# Altium footprint library Miscellaneous Connector PCB.PcbLib: 186 footprints (part 1 of 12)
Each footprint in its own frame and in the unit in brackets; x right, y up, seen from the top. Pads: shape width x height; smd on the part's side, far side on the other; paste and mask are expansions set on the pad; w line width, h text height; cw(c..) or ccw(c..) is an arc to the next point about the centre after c.
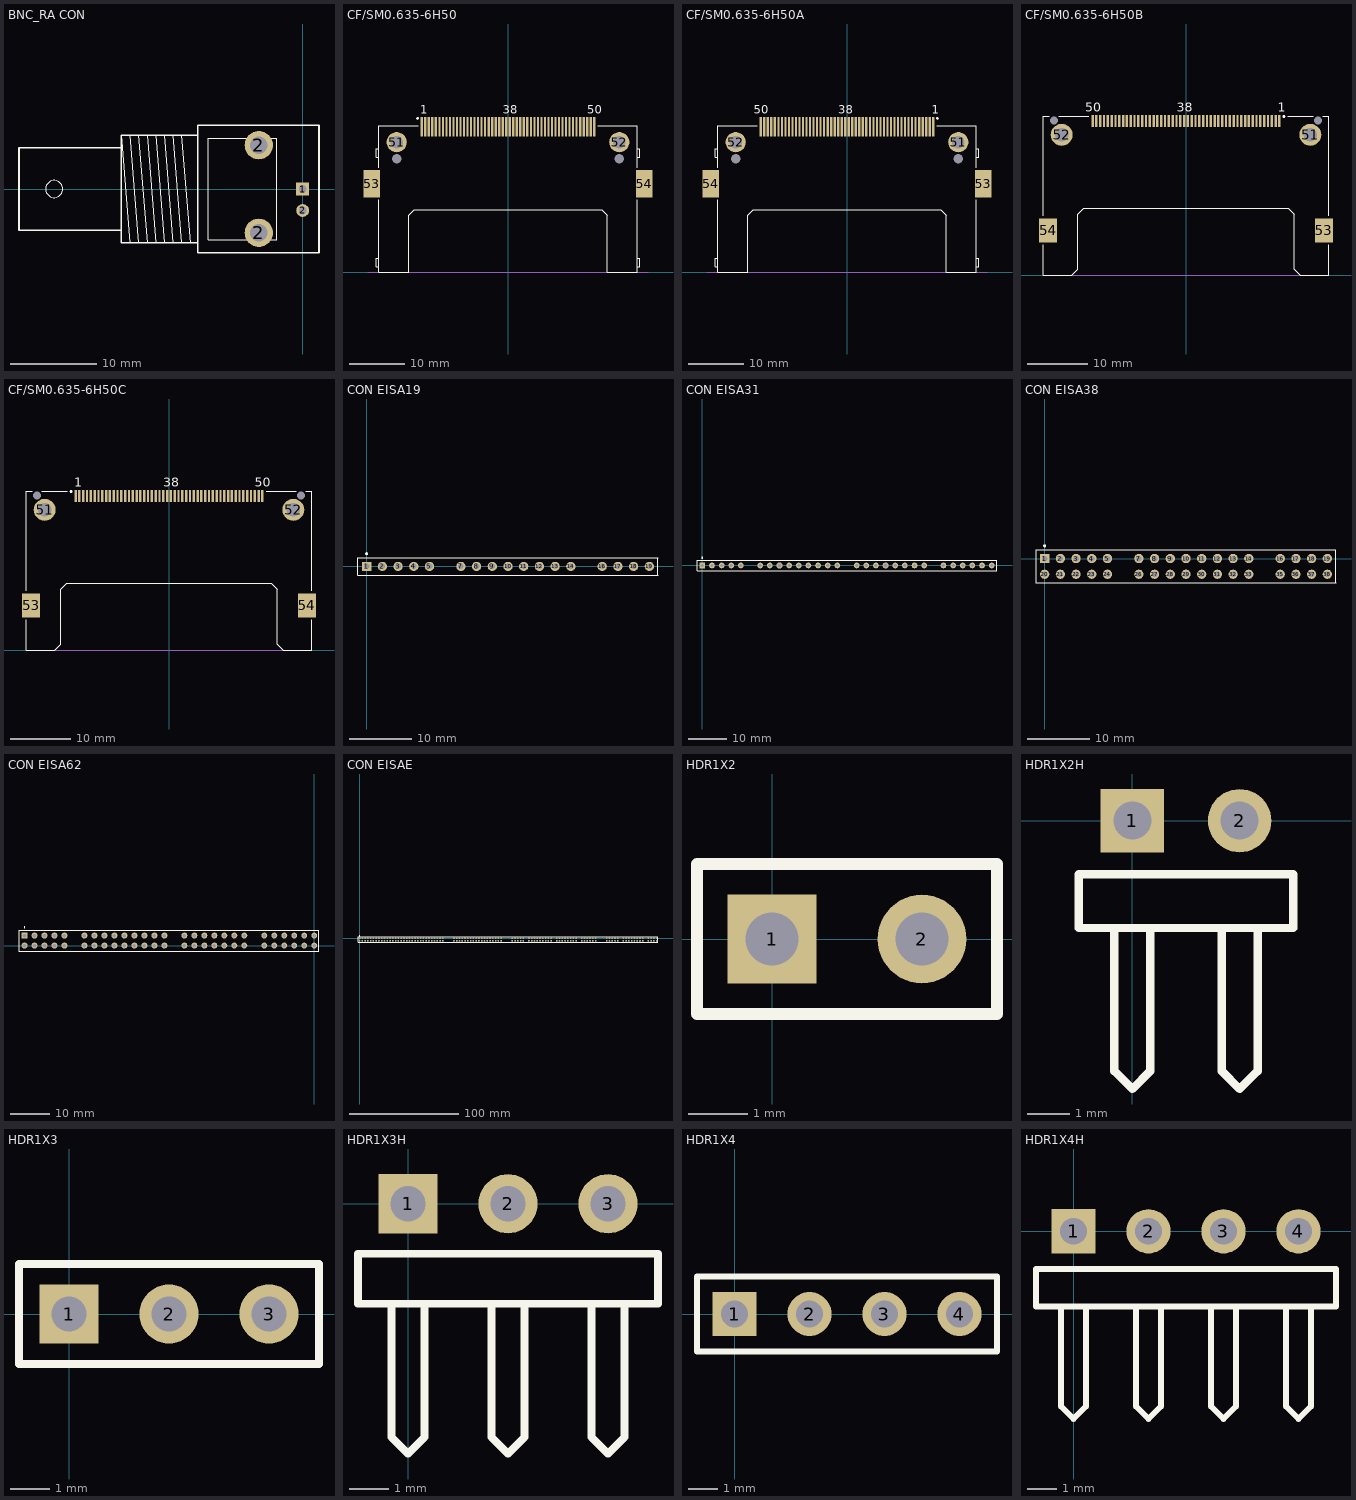
[diagram p0: the footprints below, top view; thin cyan lines are the x and y axes]

## BNC_RA CON [mm]
pads (4):
  rect 1.5x1.5 hole 0.9: 1(0,0)
  round 3.3 hole 2: 2(-5.1,-5.1) 2(-5.1,5.1)
  round 1.5 hole 0.9: 2(0,-2.5)
Top Overlay:
  circle w0.025: c-28.9,0 r1
  lines w0.025: -20.1,-6.25 -21.1,6.25 ; -20.1,6.25 -19.1,-6.25 ; -19.1,6.25 -18.1,-6.25 ; -18.1,6.25 -17.1,-6.25 ; -17.1,6.25 -16.1,-6.25 ; -16.1,6.25 -15.1,-6.25 ; -15.1,6.25 -14.1,-6.25 ; -14.1,6.25 -13.1,-6.25 ; -21.1,-4.8 -33,-4.8 -33,4.8 -21.1,4.8 ; -21.1,-4.8 -21.1,4.8 ; -21.1,-4.8 -21.1,-6.25 -12.2,-6.25 ; -21.1,4.8 -21.1,6.25 ; -21.1,6.25 -12.2,6.25 ; -12.2,-6.25 -12.2,6.25 ; -12.2,-6.25 -12.2,-7.4 1.9,-7.4 1.9,7.4 -12.2,7.4 -12.2,6.25 ; -11,-5.9 -3,-5.9 -3,5.9 -11,5.9 -11,-5.9
  lines w0.2: -21.1,-4.8 -21.1,4.8 ; -21.1,-4.8 -33,-4.8 -33,4.8 -21.1,4.8 ; -21.1,-4.8 -21.1,-6.25 -12.2,-6.25 ; -21.1,4.8 -21.1,6.25 -12.2,6.25 ; -12.2,-6.25 -12.2,6.25 ; -12.2,-6.25 -12.2,-7.4 1.9,-7.4 1.9,7.4 -12.2,7.4 -12.2,6.25

## CF/SM0.635-6H50 [mm] "Connector; CompactFlash Card Header, SM; Normal Polarization; 50 Position; Right Angle; Pitch 0.635 mm"
height 6.72
pads (56):
  rect 0.4x3.5 smd: 1(-15.557,26.3) 2(-14.287,26.3) 3(-13.017,26.3) 4(-11.747,26.3) 5(-10.477,26.3) 6(-9.207,26.3) 7(-7.937,26.3) 8(-6.667,26.3) 9(-5.397,26.3) 10(-4.127,26.3) 11(-2.857,26.3) 12(-1.587,26.3) 13(-0.317,26.3) 14(0.953,26.3) 15(2.223,26.3) 16(3.493,26.3) 17(4.763,26.3) 18(6.033,26.3) 19(7.303,26.3) 20(8.573,26.3) 21(9.843,26.3) 22(11.113,26.3) 23(12.383,26.3) 24(13.653,26.3) 25(14.923,26.3) 26(-14.922,26.3) 27(-13.652,26.3) 28(-12.383,26.3) 29(-11.112,26.3) 30(-9.842,26.3) 31(-8.572,26.3) 32(-7.302,26.3) 33(-6.032,26.3) 34(-4.762,26.3) 35(-3.492,26.3) 36(-2.222,26.3) 37(-0.952,26.3) 38(0.318,26.3) 39(1.588,26.3) 40(2.858,26.3) 41(4.128,26.3) 42(5.398,26.3) 43(6.668,26.3) 44(7.938,26.3) 45(9.208,26.3) 46(10.478,26.3) 47(11.748,26.3) 48(13.018,26.3) 49(14.288,26.3) 50(15.558,26.3)
  round 3.65 hole 2.2: 51(-20.08,23.5) 52(20.08,23.5)
  rect 3x5 smd: 53(-24.565,16) 54(24.565,16)
  round 1.4 hole 1.7 unplated: 55(-20.08,20.5) 56(20.08,20.5)
Top Overlay:
  circle w0.25: c-16.3,27.8 r0.125
  lines w0.2: -23.3,1 -23.8,1 -23.8,2.54 -23.3,2.54 ; -23.3,13.1 -23.3,0 -17.95,0 -17.95,10.3 -16.95,11.3 16.95,11.3 17.95,10.3 17.95,0 23.3,0 23.3,13.1 ; -23.3,18.9 -23.3,26.5 -16.16,26.5 ; -23.3,20.76 -23.8,20.76 -23.8,22.3 -23.3,22.3 ; 16.16,26.5 23.3,26.5 23.3,18.9 ; 23.3,1 23.8,1 23.8,2.54 23.3,2.54 ; 23.3,20.76 23.8,20.76 23.8,22.3 23.3,22.3
  text "50" at 14.308,28.6 h1.5
  text "1" at -15.807,28.6 h1.5
  text "38" at -0.907,28.6 h1.5
Mechanical 1:
  lines w0.1: -25.3,0 25.3,0
  text "PCB Edge" at -17.3,0.45 h0.6

## CF/SM0.635-6H50A [mm] "Connector; CompactFlash Card Header, SM; lnverse Polarization; 50 Position; Right Angle; Pitch 0.635 mm"
height 6.72
pads (56):
  rect 0.4x3.5 smd: 1(15.558,26.3) 2(14.288,26.3) 3(13.018,26.3) 4(11.748,26.3) 5(10.478,26.3) 6(9.208,26.3) 7(7.938,26.3) 8(6.668,26.3) 9(5.398,26.3) 10(4.128,26.3) 11(2.858,26.3) 12(1.588,26.3) 13(0.318,26.3) 14(-0.952,26.3) 15(-2.222,26.3) 16(-3.492,26.3) 17(-4.762,26.3) 18(-6.032,26.3) 19(-7.302,26.3) 20(-8.572,26.3) 21(-9.842,26.3) 22(-11.112,26.3) 23(-12.382,26.3) 24(-13.652,26.3) 25(-14.922,26.3) 26(14.923,26.3) 27(13.653,26.3) 28(12.383,26.3) 29(11.113,26.3) 30(9.843,26.3) 31(8.573,26.3) 32(7.303,26.3) 33(6.033,26.3) 34(4.763,26.3) 35(3.493,26.3) 36(2.223,26.3) 37(0.953,26.3) 38(-0.317,26.3) 39(-1.587,26.3) 40(-2.857,26.3) 41(-4.127,26.3) 42(-5.397,26.3) 43(-6.667,26.3) 44(-7.937,26.3) 45(-9.207,26.3) 46(-10.477,26.3) 47(-11.747,26.3) 48(-13.017,26.3) 49(-14.287,26.3) 50(-15.557,26.3)
  round 3.65 hole 2.2: 51(20.08,23.5) 52(-20.08,23.5)
  rect 3x5 smd: 53(24.565,16) 54(-24.565,16)
  round 1.4 hole 1.7 unplated: 55(20.08,20.5) 56(-20.08,20.5)
Top Overlay:
  circle w0.25: c16.3,27.8 r0.125
  lines w0.2: -23.3,1 -23.8,1 -23.8,2.54 -23.3,2.54 ; -23.3,13.1 -23.3,0 -17.95,0 -17.95,10.3 -16.95,11.3 16.95,11.3 17.95,10.3 17.95,0 23.3,0 23.3,13.1 ; -23.3,18.9 -23.3,26.5 -16.16,26.5 ; -23.3,20.76 -23.8,20.76 -23.8,22.3 -23.3,22.3 ; 16.16,26.5 23.3,26.5 23.3,18.9 ; 23.3,1 23.8,1 23.8,2.54 23.3,2.54 ; 23.3,20.76 23.8,20.76 23.8,22.3 23.3,22.3
  text "38" at -1.567,28.6 h1.5
  text "50" at -16.807,28.6 h1.5
  text "1" at 15.308,28.6 h1.5
Mechanical 1:
  lines w0.1: -25.3,0 25.3,0
  text "PCB Edge" at -17.3,0.45 h0.6

## CF/SM0.635-6H50B [mm] "Connector; CompactFlash Card Header, SM; Reverse Mount; 50 Position; Right Angle; Pitch 0.635 mm"
height 6.8
pads (56):
  rect 0.4x2 smd: 1(15.557,25.7) 2(14.287,25.7) 3(13.018,25.7) 4(11.747,25.7) 5(10.477,25.7) 6(9.207,25.7) 7(7.938,25.7) 8(6.667,25.7) 9(5.397,25.7) 10(4.127,25.7) 11(2.857,25.7) 12(1.587,25.7) 13(0.318,25.7) 14(-0.953,25.7) 15(-2.222,25.7) 16(-3.492,25.7) 17(-4.763,25.7) 18(-6.032,25.7) 19(-7.302,25.7) 20(-8.572,25.7) 21(-9.842,25.7) 22(-11.112,25.7) 23(-12.383,25.7) 24(-13.652,25.7) 25(-14.922,25.7) 26(14.922,25.7) 27(13.652,25.7) 28(12.383,25.7) 29(11.112,25.7) 30(9.842,25.7) 31(8.572,25.7) 32(7.302,25.7) 33(6.032,25.7) 34(4.763,25.7) 35(3.492,25.7) 36(2.222,25.7) 37(0.953,25.7) 38(-0.318,25.7) 39(-1.587,25.7) 40(-2.857,25.7) 41(-4.127,25.7) 42(-5.397,25.7) 43(-6.667,25.7) 44(-7.938,25.7) 45(-9.207,25.7) 46(-10.477,25.7) 47(-11.747,25.7) 48(-13.018,25.7) 49(-14.287,25.7) 50(-15.557,25.7)
  round 3.65 hole 2.3: 51(20.7,23.4) 52(-20.7,23.4)
  rect 3x4 smd: 53(22.98,7.5) 54(-22.98,7.5)
  round 1 hole 1.3 unplated: 55(22,25.8) 56(-22,25.8)
Top Overlay:
  circle w0.25: c16.3,26.45 r0.125
  lines w0.2: -23.8,5.1 -23.8,0 -19,0 -18,1 -18,10.2 -17,11.2 17,11.2 18,10.2 18,1 19,0 23.8,0 23.8,5.1 ; -23.8,9.9 -23.8,26.5 -22.8,26.5 ; -21.2,26.5 -16.16,26.5 ; 16.957,26.5 21.2,26.5 ; 22.8,26.5 23.8,26.5 23.8,9.9
  text "38" at -1.568,27.25 h1.5
  text "1" at 15.308,27.25 h1.5
  text "50" at -16.808,27.25 h1.5
Mechanical 1:
  lines w0.1: -23.8,0 23.8,0
  text "PCB Edge" at -17.3,0.45 h0.6

## CF/SM0.635-6H50C [mm] "Connector; CompactFlash Card Header, SM; Standard Mount; 50 Position; Right Angle; Pitch 0.635 mm"
height 6.8
pads (56):
  rect 0.4x2 smd: 1(-15.557,25.7) 2(-14.287,25.7) 3(-13.018,25.7) 4(-11.747,25.7) 5(-10.477,25.7) 6(-9.207,25.7) 7(-7.938,25.7) 8(-6.667,25.7) 9(-5.397,25.7) 10(-4.127,25.7) 11(-2.857,25.7) 12(-1.587,25.7) 13(-0.318,25.7) 14(0.953,25.7) 15(2.222,25.7) 16(3.492,25.7) 17(4.763,25.7) 18(6.032,25.7) 19(7.302,25.7) 20(8.572,25.7) 21(9.842,25.7) 22(11.112,25.7) 23(12.383,25.7) 24(13.652,25.7) 25(14.922,25.7) 26(-14.922,25.7) 27(-13.652,25.7) 28(-12.383,25.7) 29(-11.112,25.7) 30(-9.842,25.7) 31(-8.572,25.7) 32(-7.302,25.7) 33(-6.032,25.7) 34(-4.763,25.7) 35(-3.492,25.7) 36(-2.222,25.7) 37(-0.953,25.7) 38(0.318,25.7) 39(1.587,25.7) 40(2.857,25.7) 41(4.127,25.7) 42(5.397,25.7) 43(6.667,25.7) 44(7.938,25.7) 45(9.207,25.7) 46(10.477,25.7) 47(11.747,25.7) 48(13.018,25.7) 49(14.287,25.7) 50(15.557,25.7)
  round 3.65 hole 2.3: 51(-20.7,23.4) 52(20.7,23.4)
  rect 3x4 smd: 53(-22.98,7.5) 54(22.98,7.5)
  round 1 hole 1.3 unplated: 55(-22,25.8) 56(22,25.8)
Top Overlay:
  circle w0.25: c-16.3,26.45 r0.125
  lines w0.2: -23.8,5.1 -23.8,0 -19,0 -18,1 -18,10.2 -17,11.2 17,11.2 18,10.2 18,1 19,0 23.8,0 23.8,5.1 ; -23.8,9.9 -23.8,26.5 -22.8,26.5 ; -21.2,26.5 -16.957,26.5 ; 16.16,26.5 21.2,26.5 ; 22.8,26.5 23.8,26.5 23.8,9.9
  text "38" at -0.933,27.25 h1.5
  text "1" at -15.807,27.25 h1.5
  text "50" at 14.307,27.25 h1.5
Mechanical 1:
  lines w0.1: -23.8,0 23.8,0
  text "PCB Edge" at -17.3,0.45 h0.6

## CON EISA19 [mm]
pads (17):
  rect 1.5x1.5 hole 0.9: 1(0,0)
  round 1.5 hole 0.9: 2(2.54,0) 3(5.08,0) 4(7.62,0) 5(10.16,0) 7(15.24,0) 8(17.78,0) 9(20.32,0) 10(22.86,0) 11(25.4,0) 12(27.94,0) 13(30.48,0) 14(33.02,0) 16(38.1,0) 17(40.64,0) 18(43.18,0) 19(45.72,0)
Top Overlay:
  circle w0.25: c0,2.05 r0.125
  lines w0.2: -1.4,-1.4 47.12,-1.4 47.12,1.4 -1.4,1.4 -1.4,-1.4

## CON EISA31 [mm]
pads (28):
  rect 1.5x1.5 hole 0.9: 1(0,0)
  round 1.5 hole 0.9: 2(2.54,0) 3(5.08,0) 4(7.62,0) 5(10.16,0) 7(15.24,0) 8(17.78,0) 10(22.86,0) 11(25.4,0) 12(27.94,0) 13(30.48,0) 14(33.02,0) 15(35.56,0) 17(40.64,0) 18(43.18,0) 19(45.72,0) 21(50.8,0) 22(53.34,0) 23(55.88,0) 24(58.42,0) 26(63.5,0) 27(66.04,0) 28(68.58,0) 29(71.12,0) 30(73.66,0) 31(76.2,0)
  round 1.6 hole 0.99: 9(20.32,0) 20(48.26,0)
Top Overlay:
  circle w0.25: c0,2.05 r0.125
  lines w0.2: -1.4,-1.4 -1.4,1.4 77.6,1.4 77.6,-1.4 -1.4,-1.4

## CON EISA38 [mm]
pads (34):
  rect 1.5x1.5 hole 0.9: 1(0,0)
  round 1.5 hole 0.9: 2(2.54,0) 3(5.08,0) 4(7.62,0) 5(10.16,0) 7(15.24,0) 8(17.78,0) 9(20.32,0) 10(22.86,0) 11(25.4,0) 12(27.94,0) 13(30.48,0) 14(33.02,0) 16(38.1,0) 17(40.64,0) 18(43.18,0) 19(45.72,0) 20(0,-2.54) 21(2.54,-2.54) 22(5.08,-2.54) 23(7.62,-2.54) 24(10.16,-2.54) 26(15.24,-2.54) 27(17.78,-2.54) 28(20.32,-2.54) 29(22.86,-2.54) 30(25.4,-2.54) 31(27.94,-2.54) 32(30.48,-2.54) 33(33.02,-2.54) 35(38.1,-2.54) 36(40.64,-2.54) 37(43.18,-2.54) 38(45.72,-2.54)
Top Overlay:
  circle w0.25: c0,2.05 r0.125
  lines w0.2: -1.4,-3.94 47.12,-3.94 47.12,1.4 -1.4,1.4 -1.4,-3.94

## CON EISA62 [mm]
pads (54):
  rect 1.5x1.5 hole 0.9: E1(-73.66,2.54)
  round 1.5 hole 0.9: E2(-71.12,2.54) E3(-68.58,2.54) E4(-66.04,2.54) E5(-63.5,2.54) E7(-58.42,2.54) E8(-55.88,2.54) E9(-53.34,2.54) E10(-50.8,2.54) E11(-48.26,2.54) E12(-45.72,2.54) E13(-43.18,2.54) E14(-40.64,2.54) E15(-38.1,2.54) E18(-33.02,2.54) E19(-30.48,2.54) E20(-27.94,2.54) E21(-25.4,2.54) E22(-22.86,2.54) E23(-20.32,2.54) E24(-17.78,2.54) E26(-12.7,2.54) E27(-10.16,2.54) E28(-7.62,2.54) E29(-5.08,2.54) E30(-2.54,2.54) E31(0,2.54) F1(-73.66,0) F2(-71.12,0) F3(-68.58,0) F4(-66.04,0) F5(-63.5,0) F7(-58.42,0) F8(-55.88,0) F9(-53.34,0) F10(-50.8,0) F11(-48.26,0) F12(-45.72,0) F13(-43.18,0) F14(-40.64,0) F15(-38.1,0) F18(-33.02,0) F19(-30.48,0) F20(-27.94,0) F21(-25.4,0) F22(-22.86,0) F23(-20.32,0) F24(-17.78,0) F26(-12.7,0) F27(-10.16,0) F28(-7.62,0) F29(-5.08,0) F30(-2.54,0) F31(0,0)
Top Overlay:
  circle w0.25: c-73.66,4.59 r0.125
  lines w0.2: -75.06,-1.4 1.2,-1.4 1.2,3.94 -75.06,3.94 -75.06,-1.4

## CON EISAE [mm]
pads (188):
  rect 1.5x1.5 hole 0.9: 1(0,0)
  round 1.5 hole 0.9: 2(2.54,0) 3(5.08,0) 4(7.62,0) 5(10.16,0) 6(12.7,0) 7(15.24,0) 8(17.78,0) 9(20.32,0) 10(22.86,0) 11(25.4,0) 12(27.94,0) 13(30.48,0) 14(33.02,0) 15(35.56,0) 16(38.1,0) 17(40.64,0) 18(43.18,0) 19(45.72,0) 20(48.26,0) 21(50.8,0) 22(53.34,0) 23(55.88,0) 24(58.42,0) 25(60.96,0) 26(63.5,0) 27(66.04,0) 28(68.58,0) 29(71.12,0) 30(73.66,0) 31(76.2,0) 35(86.36,0) 36(88.9,0) 37(91.44,0) 38(93.98,0) 39(96.52,0) 40(99.06,0) 41(101.6,0) 42(104.14,0) 43(106.68,0) 44(109.22,0) 45(111.76,0) 46(114.3,0) 47(116.84,0) 48(119.38,0) 49(121.92,0) 50(124.46,0) 51(127,0) 52(129.54,0) 56(139.7,0) 57(142.24,0) 58(144.78,0) 59(147.32,0) 60(149.86,0) 62(154.94,0) 63(157.48,0) 64(160.02,0) 65(162.56,0) 66(165.1,0) 67(167.64,0) 68(170.18,0) 69(172.72,0) 70(175.26,0) 72(180.34,0) 73(182.88,0) 74(185.42,0) 75(187.96,0) 76(190.5,0) 77(193.04,0) 78(195.58,0) 79(198.12,0) 81(203.2,0) 82(205.74,0) 83(208.28,0) 84(210.82,0) 85(213.36,0) 86(215.9,0) 90(226.06,0) 91(228.6,0) 92(231.14,0) 93(233.68,0) 94(236.22,0) 96(241.3,0) 97(243.84,0) 98(246.38,0) 99(248.92,0) 100(251.46,0) 101(254,0) 102(256.54,0) 103(259.08,0) 105(264.16,0) 106(266.7,0) 107(269.24,0) 108(271.78,0) 109(0,-2.54) 110(2.54,-2.54) 111(5.08,-2.54) 112(7.62,-2.54) 113(10.16,-2.54) 114(12.7,-2.54) 115(15.24,-2.54) 116(17.78,-2.54) 117(20.32,-2.54) 118(22.86,-2.54) 119(25.4,-2.54) 120(27.94,-2.54) 121(30.48,-2.54) 122(33.02,-2.54) 123(35.56,-2.54) 124(38.1,-2.54) 125(40.64,-2.54) 126(43.18,-2.54) 127(45.72,-2.54) 128(48.26,-2.54) 129(50.8,-2.54) 130(53.34,-2.54) 131(55.88,-2.54) 132(58.42,-2.54) 133(60.96,-2.54) 134(63.5,-2.54) 135(66.04,-2.54) 136(68.58,-2.54) 137(71.12,-2.54) 138(73.66,-2.54) 139(76.2,-2.54) 143(86.36,-2.54) 144(88.9,-2.54) 145(91.44,-2.54) 146(93.98,-2.54) 147(96.52,-2.54) 148(99.06,-2.54) 149(101.6,-2.54) 150(104.14,-2.54) 151(106.68,-2.54) 152(109.22,-2.54) 153(111.76,-2.54) 154(114.3,-2.54) 155(116.84,-2.54) 156(119.38,-2.54) 157(121.92,-2.54) 158(124.46,-2.54) 159(127,-2.54) 160(129.54,-2.54) 164(139.7,-2.54) 165(142.24,-2.54) 166(144.78,-2.54) 167(147.32,-2.54) 168(149.86,-2.54) 170(154.94,-2.54) 171(157.48,-2.54) 172(160.02,-2.54) 173(162.56,-2.54) 174(165.1,-2.54) 175(167.64,-2.54) 176(170.18,-2.54) 177(172.72,-2.54) 178(175.26,-2.54) 180(180.34,-2.54) 181(182.88,-2.54) 182(185.42,-2.54) 183(187.96,-2.54) 184(190.5,-2.54) 185(193.04,-2.54) 186(195.58,-2.54) 187(198.12,-2.54) 189(203.2,-2.54) 190(205.74,-2.54) 191(208.28,-2.54) 192(210.82,-2.54) 193(213.36,-2.54) 194(215.9,-2.54) 198(226.06,-2.54) 199(228.6,-2.54) 200(231.14,-2.54) 201(233.68,-2.54) 202(236.22,-2.54) 204(241.3,-2.54) 205(243.84,-2.54) 206(246.38,-2.54) 207(248.92,-2.54) 208(251.46,-2.54) 209(254,-2.54) 210(256.54,-2.54) 211(259.08,-2.54) 213(264.16,-2.54) 214(266.7,-2.54) 215(269.24,-2.54) 216(271.78,-2.54)
Top Overlay:
  circle w0.25: c0,2.05 r0.125
  lines w0.2: -1.4,-3.94 272.98,-3.94 272.98,1.4 -1.4,1.4 -1.4,-3.94

## HDR1X2 [mm]
pads (2):
  rect 1.5x1.5 hole 0.9: 1(0,0)
  round 1.5 hole 0.9: 2(2.54,0)
Top Overlay:
  lines w0.2: -1.27,-1.27 -1.27,1.27 3.81,1.27 3.81,-1.27 -1.27,-1.27

## HDR1X2H [mm]
pads (2):
  rect 1.5x1.5 hole 0.9: 1(0,0)
  round 1.5 hole 0.9: 2(2.54,0)
Top Overlay:
  lines w0.2: -0.423,-2.54 -0.423,-5.927 0,-6.35 0.423,-5.927 0.423,-2.54 ; 2.117,-2.54 2.117,-5.927 2.54,-6.35 2.963,-5.927 2.963,-2.54 ; -1.27,-2.54 3.81,-2.54 3.81,-1.27 -1.27,-1.27 -1.27,-2.54

## HDR1X3 [mm]
pads (3):
  rect 1.5x1.5 hole 0.9: 1(0,0)
  round 1.5 hole 0.9: 2(2.54,0) 3(5.08,0)
Top Overlay:
  lines w0.2: -1.27,-1.27 -1.27,1.27 6.35,1.27 6.35,-1.27 -1.27,-1.27

## HDR1X3H [mm]
pads (3):
  rect 1.5x1.5 hole 0.9: 1(0,0)
  round 1.5 hole 0.9: 2(2.54,0) 3(5.08,0)
Top Overlay:
  lines w0.2: -0.423,-2.54 -0.423,-5.927 0,-6.35 0.423,-5.927 0.423,-2.54 ; 2.117,-2.54 2.117,-5.927 2.54,-6.35 2.963,-5.927 2.963,-2.54 ; 4.657,-2.54 4.657,-5.927 5.08,-6.35 5.503,-5.927 5.503,-2.54 ; -1.27,-2.54 -1.27,-1.27 6.35,-1.27 6.35,-2.54 -1.27,-2.54

## HDR1X4 [mm]
pads (4):
  rect 1.5x1.5 hole 0.9: 1(0,0)
  round 1.5 hole 0.9: 2(2.54,0) 3(5.08,0) 4(7.62,0)
Top Overlay:
  lines w0.2: -1.27,-1.27 8.89,-1.27 8.89,1.27 -1.27,1.27 -1.27,-1.27

## HDR1X4H [mm]
pads (4):
  rect 1.5x1.5 hole 0.9: 1(0,0)
  round 1.5 hole 0.9: 2(2.54,0) 3(5.08,0) 4(7.62,0)
Top Overlay:
  lines w0.2: -0.423,-2.54 -0.423,-5.927 0,-6.35 0.423,-5.927 0.423,-2.54 ; 2.117,-2.54 2.117,-5.927 2.54,-6.35 2.963,-5.927 2.963,-2.54 ; 4.657,-2.54 4.657,-5.927 5.08,-6.35 5.503,-5.927 5.503,-2.54 ; 7.197,-2.54 7.197,-5.927 7.62,-6.35 8.043,-5.927 8.043,-2.54 ; -1.27,-2.54 8.89,-2.54 8.89,-1.27 -1.27,-1.27 -1.27,-2.54